# EAGLE library part MCP73833/4 (library Library)
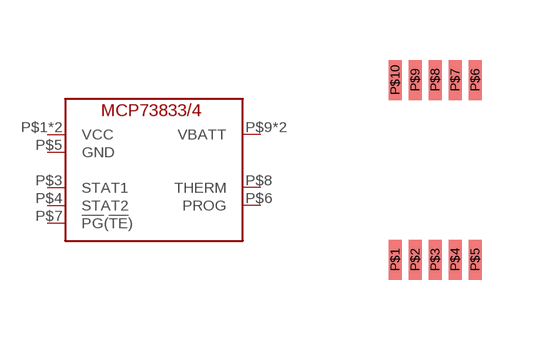
[diagram p1: symbol with the pads of 10-MSOP; footprint 10-MSOP]

Designator prefix -

## MCP73833/4  [10-MSOP]
P$1  VCC
P$2  VCC
P$3  STAT1
P$4  STAT2
P$5  GND
P$6  PROG
P$7  !PG!(!TE!)
P$8  THERM
P$9  VBATT
P$10  VBATT

## Footprint 10-MSOP (pad centres in mm)
smd 0.33 x 1: P$1 0,0; P$2 0.5,0; P$3 1,0; P$4 1.5,0; P$5 2,0; P$6 2,4.5; P$7 1.5,4.5; P$8 1,4.5; P$9 0.5,4.5; P$10 0,4.5